# Altium schematic symbol library SCH - MCU - SI LABS - SI LABS EFM32GG942F512 64-PIN QFP 10X10.SchLib: 1 symbol
Pins are listed as number, name and electrical type; pins without a type are passive.

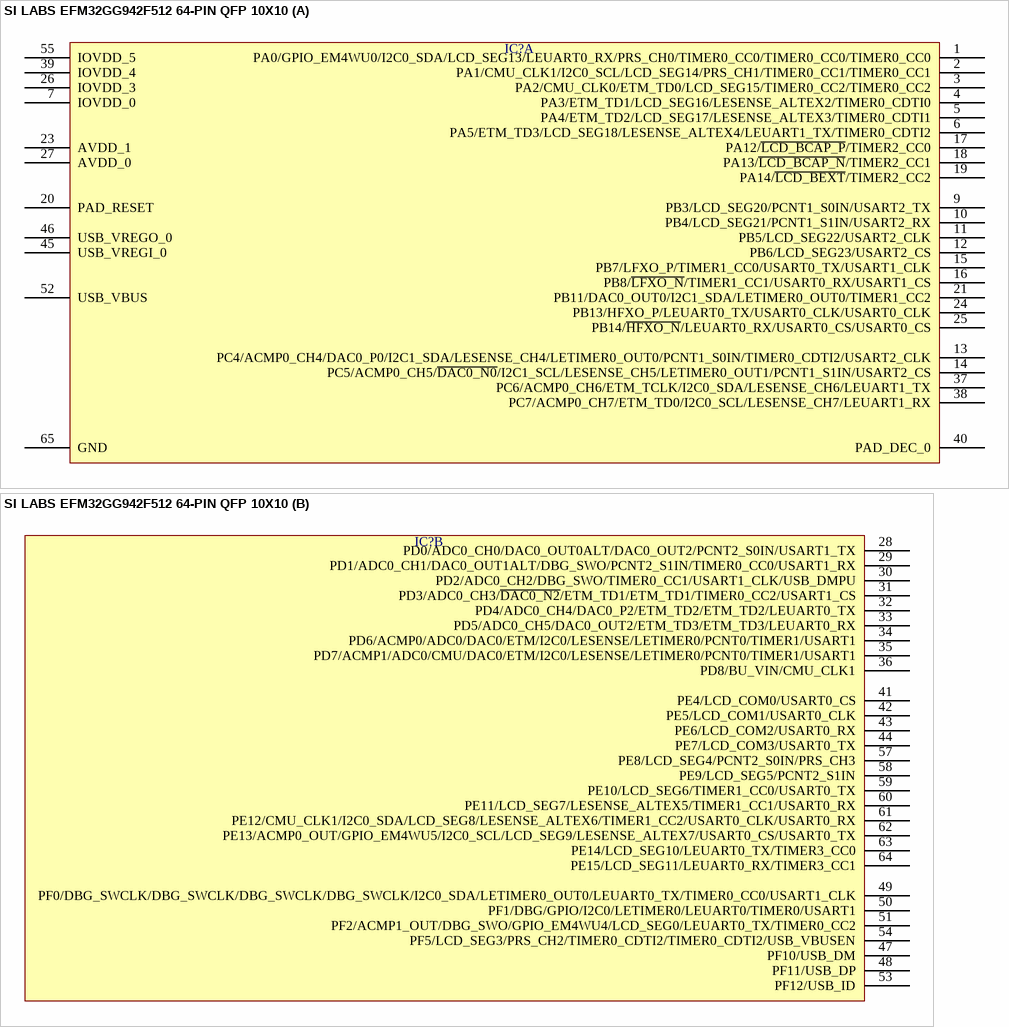
[diagram p0: symbol SI LABS EFM32GG942F512 64-PIN QFP 10X10]

## SI LABS EFM32GG942F512 64-PIN QFP 10X10
designator IC?  (value not drawn)
part A pins: 1 PA0/GPIO_EM4WU0/I2C0_SDA/LCD_SEG13/LEUART0_RX/PRS_CH0/TIMER0_CC0/TIMER0_CC0/TIMER0_CC0, 2 PA1/CMU_CLK1/I2C0_SCL/LCD_SEG14/PRS_CH1/TIMER0_CC1/TIMER0_CC1, 3 PA2/CMU_CLK0/ETM_TD0/LCD_SEG15/TIMER0_CC2/TIMER0_CC2, 4 PA3/ETM_TD1/LCD_SEG16/LESENSE_ALTEX2/TIMER0_CDTI0, 5 PA4/ETM_TD2/LCD_SEG17/LESENSE_ALTEX3/TIMER0_CDTI1, 6 PA5/ETM_TD3/LCD_SEG18/LESENSE_ALTEX4/LEUART1_TX/TIMER0_CDTI2, 7 IOVDD_0, 9 PB3/LCD_SEG20/PCNT1_S0IN/USART2_TX, 10 PB4/LCD_SEG21/PCNT1_S1IN/USART2_RX, 11 PB5/LCD_SEG22/USART2_CLK, 12 PB6/LCD_SEG23/USART2_CS, 13 PC4/ACMP0_CH4/DAC0_P0/I2C1_SDA/LESENSE_CH4/LETIMER0_OUT0/PCNT1_S0IN/TIMER0_CDTI2/USART2_CLK, 14 PC5/ACMP0_CH5/~{DAC0_N0}/I2C1_SCL/LESENSE_CH5/LETIMER0_OUT1/PCNT1_S1IN/USART2_CS, 15 PB7/LFXO_P/TIMER1_CC0/USART0_TX/USART1_CLK, 16 PB8/~{LFXO_N}/TIMER1_CC1/USART0_RX/USART1_CS, 17 PA12/~{LCD_BCAP_P}/TIMER2_CC0, 18 PA13/~{LCD_BCAP_N}/TIMER2_CC1, 19 PA14/~{LCD_BEXT}/TIMER2_CC2, 20 PAD_RESET, 21 PB11/DAC0_OUT0/I2C1_SDA/LETIMER0_OUT0/TIMER1_CC2, 23 AVDD_1, 24 PB13/HFXO_P/LEUART0_TX/USART0_CLK/USART0_CLK, 25 PB14/~{HFXO_N}/LEUART0_RX/USART0_CS/USART0_CS, 26 IOVDD_3, 27 AVDD_0, 37 PC6/ACMP0_CH6/ETM_TCLK/I2C0_SDA/LESENSE_CH6/LEUART1_TX, 38 PC7/ACMP0_CH7/ETM_TD0/I2C0_SCL/LESENSE_CH7/LEUART1_RX, 39 IOVDD_4, 40 PAD_DEC_0, 45 USB_VREGI_0, 46 USB_VREGO_0, 52 USB_VBUS, 55 IOVDD_5, 65 GND
part B pins: 28 PD0/ADC0_CH0/DAC0_OUT0ALT/DAC0_OUT2/PCNT2_S0IN/USART1_TX, 29 PD1/ADC0_CH1/DAC0_OUT1ALT/DBG_SWO/PCNT2_S1IN/TIMER0_CC0/USART1_RX, 30 PD2/ADC0_CH2/DBG_SWO/TIMER0_CC1/USART1_CLK/USB_DMPU, 31 PD3/ADC0_CH3/~{DAC0_N2}/ETM_TD1/ETM_TD1/TIMER0_CC2/USART1_CS, 32 PD4/ADC0_CH4/DAC0_P2/ETM_TD2/ETM_TD2/LEUART0_TX, 33 PD5/ADC0_CH5/DAC0_OUT2/ETM_TD3/ETM_TD3/LEUART0_RX, 34 PD6/ACMP0/ADC0/DAC0/ETM/I2C0/LESENSE/LETIMER0/PCNT0/TIMER1/USART1, 35 PD7/ACMP1/ADC0/CMU/DAC0/ETM/I2C0/LESENSE/LETIMER0/PCNT0/TIMER1/USART1, 36 PD8/BU_VIN/CMU_CLK1, 41 PE4/LCD_COM0/USART0_CS, 42 PE5/LCD_COM1/USART0_CLK, 43 PE6/LCD_COM2/USART0_RX, 44 PE7/LCD_COM3/USART0_TX, 47 PF10/USB_DM, 48 PF11/USB_DP, 49 PF0/DBG_SWCLK/DBG_SWCLK/DBG_SWCLK/DBG_SWCLK/I2C0_SDA/LETIMER0_OUT0/LEUART0_TX/TIMER0_CC0/USART1_CLK, 50 PF1/DBG/GPIO/I2C0/LETIMER0/LEUART0/TIMER0/USART1, 51 PF2/ACMP1_OUT/DBG_SWO/GPIO_EM4WU4/LCD_SEG0/LEUART0_TX/TIMER0_CC2, 53 PF12/USB_ID, 54 PF5/LCD_SEG3/PRS_CH2/TIMER0_CDTI2/TIMER0_CDTI2/USB_VBUSEN, 57 PE8/LCD_SEG4/PCNT2_S0IN/PRS_CH3, 58 PE9/LCD_SEG5/PCNT2_S1IN, 59 PE10/LCD_SEG6/TIMER1_CC0/USART0_TX, 60 PE11/LCD_SEG7/LESENSE_ALTEX5/TIMER1_CC1/USART0_RX, 61 PE12/CMU_CLK1/I2C0_SDA/LCD_SEG8/LESENSE_ALTEX6/TIMER1_CC2/USART0_CLK/USART0_RX, 62 PE13/ACMP0_OUT/GPIO_EM4WU5/I2C0_SCL/LCD_SEG9/LESENSE_ALTEX7/USART0_CS/USART0_TX, 63 PE14/LCD_SEG10/LEUART0_TX/TIMER3_CC0, 64 PE15/LCD_SEG11/LEUART0_RX/TIMER3_CC1